# Altium schematic symbol library AD9361.Schlib: 1 symbol
Pins are listed as number, name and electrical type; pins without a type are passive.

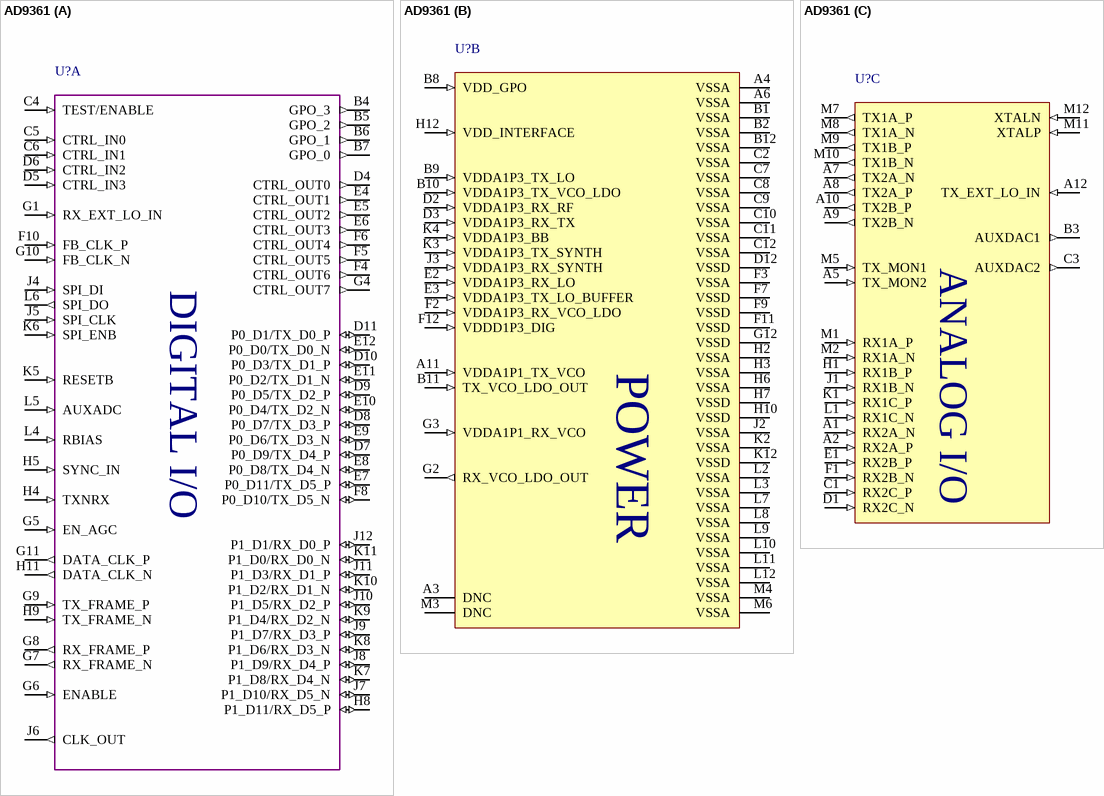
[diagram p0: symbol AD9361]

## AD9361
designator U?  (value not drawn)
part A pins: B4 GPO_3 (out), B5 GPO_2 (out), B6 GPO_1 (out), B7 GPO_0 (out), C4 TEST/ENABLE (in), C5 CTRL_IN0 (in), C6 CTRL_IN1 (in), D4 CTRL_OUT0 (out), D5 CTRL_IN3 (in), D6 CTRL_IN2 (in), D7 P0_D9/TX_D4_P (io), D8 P0_D7/TX_D3_P (io), D9 P0_D5/TX_D2_P (io), D10 P0_D3/TX_D1_P (io), D11 P0_D1/TX_D0_P (io), E4 CTRL_OUT1 (out), E5 CTRL_OUT2 (out), E6 CTRL_OUT3 (out), E7 P0_D11/TX_D5_P (io), E8 P0_D8/TX_D4_N (io), E9 P0_D6/TX_D3_N (io), E10 P0_D4/TX_D2_N (io), E11 P0_D2/TX_D1_N (io), E12 P0_D0/TX_D0_N (io), F4 CTRL_OUT6 (out), F5 CTRL_OUT5 (out), F6 CTRL_OUT4 (out), F8 P0_D10/TX_D5_N (io), F10 FB_CLK_P (in), G1 RX_EXT_LO_IN (in), G4 CTRL_OUT7 (out), G5 EN_AGC (in), G6 ENABLE (in), G7 RX_FRAME_N (out), G8 RX_FRAME_P (out), G9 TX_FRAME_P (in), G10 FB_CLK_N (in), G11 DATA_CLK_P (out), H4 TXNRX (in), H5 SYNC_IN (in), H8 P1_D11/RX_D5_P (io), H9 TX_FRAME_N (in), H11 DATA_CLK_N (out), J4 SPI_DI (in), J5 SPI_CLK (in), J6 CLK_OUT (out), J7 P1_D10/RX_D5_N (io), J8 P1_D9/RX_D4_P (io), J9 P1_D7/RX_D3_P (io), J10 P1_D5/RX_D2_P (io), J11 P1_D3/RX_D1_P (io), J12 P1_D1/RX_D0_P (io), K5 RESETB (in), K6 SPI_ENB (in), K7 P1_D8/RX_D4_N (io), K8 P1_D6/RX_D3_N (io), K9 P1_D4/RX_D2_N (io), K10 P1_D2/RX_D1_N (io), K11 P1_D0/RX_D0_N (io), L4 RBIAS (in), L5 AUXADC (in), L6 SPI_DO (out)
part B pins: A3 DNC, A4 VSSA (power), A6 VSSA (power), A11 VDDA1P1_TX_VCO (in), B1 VSSA (power), B2 VSSA (power), B8 VDD_GPO (in), B9 VDDA1P3_TX_LO (in), B10 VDDA1P3_TX_VCO_LDO (in), B11 TX_VCO_LDO_OUT (in), B12 VSSA (power), C2 VSSA (power), C7 VSSA (power), C8 VSSA (power), C9 VSSA (power), C10 VSSA (power), C11 VSSA (power), C12 VSSA (power), D2 VDDA1P3_RX_RF (in), D3 VDDA1P3_RX_TX (in), D12 VSSD (power), E2 VDDA1P3_RX_LO (in), E3 VDDA1P3_TX_LO_BUFFER (in), F2 VDDA1P3_RX_VCO_LDO (in), F3 VSSA (power), F7 VSSD (power), F9 VSSD (power), F11 VSSD (power), F12 VDDD1P3_DIG (in), G2 RX_VCO_LDO_OUT (out), G3 VDDA1P1_RX_VCO (in), G12 VSSD (power), H2 VSSA (power), H3 VSSA (power), H6 VSSA (power), H7 VSSD (power), H10 VSSD (power), H12 VDD_INTERFACE (in), J2 VSSA (power), J3 VDDA1P3_RX_SYNTH (in), K2 VSSA (power), K3 VDDA1P3_TX_SYNTH (in), K4 VDDA1P3_BB (in), K12 VSSD (power), L2 VSSA (power), L3 VSSA (power), L7 VSSA (power), L8 VSSA (power), L9 VSSA (power), L10 VSSA (power), L11 VSSA (power), L12 VSSA (power), M3 DNC, M4 VSSA (power), M6 VSSA (power)
part C pins: A1 RX2A_N (in), A2 RX2A_P (in), A5 TX_MON2 (in), A7 TX2A_N (out), A8 TX2A_P (out), A9 TX2B_N (out), A10 TX2B_P (out), A12 TX_EXT_LO_IN (in), B3 AUXDAC1 (out), C1 RX2C_P (in), C3 AUXDAC2 (out), D1 RX2C_N (in), E1 RX2B_P (in), F1 RX2B_N (in), H1 RX1B_P (in), J1 RX1B_N (in), K1 RX1C_P (in), L1 RX1C_N (in), M1 RX1A_P (in), M2 RX1A_N (in), M5 TX_MON1 (in), M7 TX1A_P (out), M8 TX1A_N (out), M9 TX1B_P (out), M10 TX1B_N (out), M11 XTALP (in), M12 XTALN (in)
2 alternate drawings of the same symbol
part A text: DIGITAL I/O
part B text: POWER
part C text: ANALOG I/O